# Altium footprint library LSP_PcbLib.PcbLib: 22 footprints (part 1 of 2)
Each footprint in its own frame and in the unit in brackets; x right, y up, seen from the top. Pads: shape width x height; smd on the part's side, far side on the other; paste and mask are expansions set on the pad; w line width, h text height; cw(c..) or ccw(c..) is an arc to the next point about the centre after c.
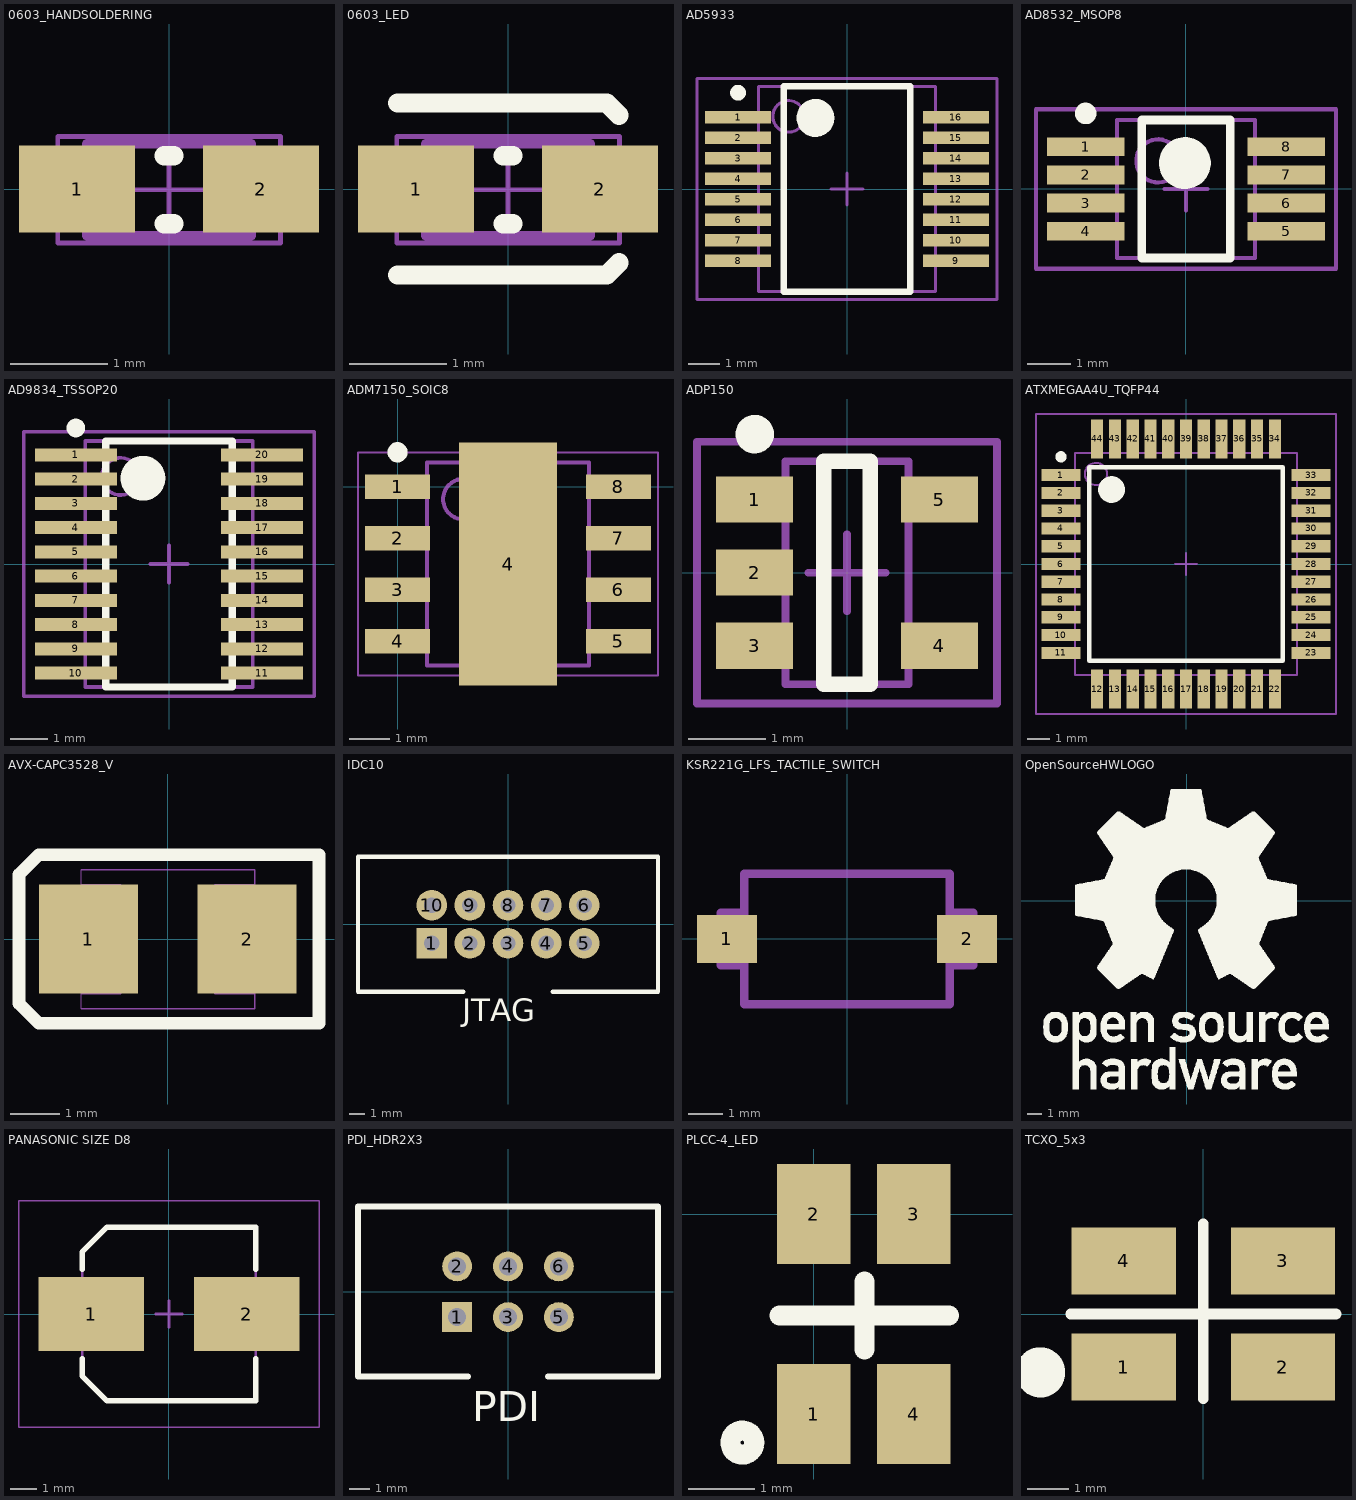
[diagram p0: the footprints below, top view; thin cyan lines are the x and y axes]

## 0603_HANDSOLDERING [mm] "Chip Resistor, 2-Leads, Body 1.6x0.8mm, IPC Medium Density"
height 0.6
pads (2):
  rect 1.2x0.9 smd: 1(-0.954,0) 2(0.946,0)
Top Overlay:
  lines w0.2: -0.053,-0.358 0.047,-0.358 ; -0.053,0.342 0.047,0.342
Mechanical 13:
  lines w0.1: -0.853,-0.483 0.847,-0.483 0.847,0.467 -0.853,0.467 -0.853,-0.483
Mechanical 15:
  lines w0.05: -0.478,-0.008 0.472,-0.008 ; -0.003,-0.483 -0.003,0.467 ; -1.153,-0.558 1.147,-0.558 1.147,0.542 -1.153,0.542 -1.153,-0.558
3D body: height 0.6, standoff 0, extent -0.852,-0.482 -0.583,0.467
3D body: height 0.6, standoff 0, extent -0.583,-0.482 0.578,0.467
3D body: height 0.6, standoff 0, extent 0.578,-0.482 0.847,0.467

## 0603_LED [mm] "SMD LED, Body 1.6x0.8mm"
height 0.6
pads (2):
  rect 1.2x0.9 smd: 1(-0.954,0) 2(0.946,0)
Top Overlay:
  lines w0.2: -1.143,-0.889 1.016,-0.889 1.143,-0.762 ; -1.143,0.889 1.016,0.889 1.143,0.762 ; -0.053,-0.358 0.047,-0.358 ; -0.053,0.342 0.047,0.342
Mechanical 13:
  lines w0.1: -0.853,-0.483 0.847,-0.483 0.847,0.467 -0.853,0.467 -0.853,-0.483
Mechanical 15:
  lines w0.05: -0.478,-0.008 0.472,-0.008 ; -0.003,-0.483 -0.003,0.467 ; -1.153,-0.558 1.147,-0.558 1.147,0.542 -1.153,0.542 -1.153,-0.558
3D body: height 0.6, standoff 0, extent -0.852,-0.482 -0.583,0.467
3D body: height 0.6, standoff 0, extent -0.583,-0.482 0.578,0.467
3D body: height 0.6, standoff 0, extent 0.578,-0.482 0.847,0.467

## AD5933 [mm] "SOP, 16-Leads, Body 6,5x5,6mm (max), Pitch 0,65mm, IPC Medium Density"
height 2
pads (16):
  rect 2.1x0.4 smd: 1(-3.45,2.275) 2(-3.45,1.625) 3(-3.45,0.975) 4(-3.45,0.325) 5(-3.45,-0.325) 6(-3.45,-0.975) 7(-3.45,-1.625) 8(-3.45,-2.275) 9(3.45,-2.275) 10(3.45,-1.625) 11(3.45,-0.975) 12(3.45,-0.325) 13(3.45,0.325) 14(3.45,0.975) 15(3.45,1.625) 16(3.45,2.275)
Top Overlay:
  circle w0.6: c-1,2.25 r0.3
  circle w0.25: c-3.45,3.05 r0.125
  lines w0.2: -2,-3.25 2,-3.25 2,3.25 -2,3.25 -2,-3.25
Mechanical 13:
  circle w0.1: c-1.85,2.3 r0.5
  lines w0.1: -2.8,-3.25 2.8,-3.25 2.8,3.25 -2.8,3.25 -2.8,-3.25
Mechanical 15:
  lines w0.1: -0.5,0 0.5,0 ; 0,-0.5 0,0.5 ; -4.75,-3.5 4.75,-3.5 4.75,3.5 -4.75,3.5 -4.75,-3.5
3D body: height 2, standoff 0.05, extent -2.8,-3.25 2.8,3.25

## AD8532_MSOP8 [mm] "TSOP, 8-Leads, Body 3,2x3,2mm (max), Pitch 0,65mm, IPC Medium Density"
height 1.1
pads (8):
  rect 1.8x0.43 smd: 1(-2.325,0.975) 2(-2.325,0.325) 3(-2.325,-0.325) 4(-2.325,-0.975) 5(2.325,-0.975) 6(2.325,-0.325) 7(2.325,0.325) 8(2.325,0.975)
Top Overlay:
  circle w0.6: c-0.025,0.6 r0.3
  circle w0.25: c-2.325,1.75 r0.125
  lines w0.2: -1.025,-1.6 1.025,-1.6 1.025,1.6 -1.025,1.6 -1.025,-1.6
Mechanical 13:
  circle w0.1: c-0.65,0.65 r0.5
  lines w0.1: -1.6,-1.6 1.6,-1.6 1.6,1.6 -1.6,1.6 -1.6,-1.6
Mechanical 15:
  lines w0.1: -0.5,0 0.5,0 ; 0,-0.5 0,0.5 ; -3.475,-1.85 3.475,-1.85 3.475,1.85 -3.475,1.85 -3.475,-1.85
3D body: height 1.1, standoff 0.1, extent -1.6,-1.6 1.6,1.6

## AD9834_TSSOP20 [mm] "TSOP, 20-Leads, Body 6,6x4,5mm (max), Pitch 0,65mm, IPC Medium Density"
height 1.2
pads (20):
  rect 2.2x0.35 smd: 1(-2.5,2.925) 2(-2.5,2.275) 3(-2.5,1.625) 4(-2.5,0.975) 5(-2.5,0.325) 6(-2.5,-0.325) 7(-2.5,-0.975) 8(-2.5,-1.625) 9(-2.5,-2.275) 10(-2.5,-2.925) 11(2.5,-2.925) 12(2.5,-2.275) 13(2.5,-1.625) 14(2.5,-0.975) 15(2.5,-0.325) 16(2.5,0.325) 17(2.5,0.975) 18(2.5,1.625) 19(2.5,2.275) 20(2.5,2.925)
Top Overlay:
  circle w0.25: c-2.5,3.65 r0.125
  circle w0.6: c-0.7,2.3 r0.3
  lines w0.2: -1.7,-3.3 -1.7,3.3 1.7,3.3 1.7,-3.3 -1.7,-3.3
Mechanical 13:
  circle w0.1: c-1.3,2.35 r0.5
  lines w0.1: -2.25,-3.3 -2.25,3.3 2.25,3.3 2.25,-3.3 -2.25,-3.3
Mechanical 15:
  lines w0.1: -0.5,0 0.5,0 ; 0,-0.5 0,0.5 ; -3.9,-3.55 -3.9,3.55 3.9,3.55 3.9,-3.55 -3.9,-3.55
3D body: height 1.2, standoff 0.1, extent -2.25,-3.3 2.25,3.3

## ADM7150_SOIC8 [mm] "SOIC, 8-Leads, Body 4,90x3,90mm, Pitch 1,27mm, Thermal Pad 6,00x2,41mm, IPC Medium Density"
height 1.65
pads (9):
  rect 1.6x0.6 smd: 1(0,0) 2(0,-1.27) 3(0,-2.54) 4(0,-3.81) 5(5.45,-3.81) 6(5.45,-2.54) 7(5.45,-1.27) 8(5.45,0)
  rect 2.41x6 smd: 4(2.725,-1.905)
Top Overlay:
  circle w0.25: c0,0.85 r0.125
Mechanical 13:
  circle w0.1: c1.625,-0.305 r0.5
  lines w0.1: 0.725,-4.405 4.725,-4.405 4.725,0.595 0.725,0.595 0.725,-4.405
Mechanical 15:
  lines w0.05: -0.975,-4.655 6.425,-4.655 6.425,0.845 -0.975,0.845 -0.975,-4.655
  lines w0.1: 2.225,-1.905 3.225,-1.905 ; 2.725,-2.405 2.725,-1.405
3D body: height 1.65, standoff 0.1, extent 0.725,-4.405 4.725,0.595

## ADP150 [mm] "SOT23, 5-Leads, Body 2,9x2,8mm (max), Pitch 0,95mm, IPC Medium Density"
height 1
pads (5):
  rect 1x0.6 smd: 1(-1.2,0.95) 2(-1.2,0) 3(-1.2,-0.95) 4(1.2,-0.95) 5(1.2,0.95)
Top Overlay:
  circle w0.25: c-1.2,1.8 r0.125
  lines w0.2: -0.3,-1.45 0.3,-1.45 0.3,1.45 -0.3,1.45 -0.3,-1.45
Mechanical 13:
  lines w0.1: -0.8,-1.45 -0.8,1.45 0.8,1.45 0.8,-1.45 -0.8,-1.45
Mechanical 15:
  lines w0.1: -0.5,0 0.5,0 ; 0,-0.5 0,0.5 ; -1.95,-1.7 -1.95,1.7 1.95,1.7 1.95,-1.7 -1.95,-1.7
3D body: height 1, standoff 0.1, extent -0.8,-1.45 0.8,1.45

## ATXMEGAA4U_TQFP44 [mm] "TQFP, 44-Leads, Body 12,3x12,3mm (max), Pitch 0,80mm, IPC Medium Density"
height 1.2
pads (44):
  rect 1.75x0.55 smd: 1(-5.625,4) 2(-5.625,3.2) 3(-5.625,2.4) 4(-5.625,1.6) 5(-5.625,0.8) 6(-5.625,0) 7(-5.625,-0.8) 8(-5.625,-1.6) 9(-5.625,-2.4) 10(-5.625,-3.2) 11(-5.625,-4) 23(5.625,-4) 24(5.625,-3.2) 25(5.625,-2.4) 26(5.625,-1.6) 27(5.625,-0.8) 28(5.625,0) 29(5.625,0.8) 30(5.625,1.6) 31(5.625,2.4) 32(5.625,3.2) 33(5.625,4)
  rect 0.55x1.75 smd: 12(-4,-5.625) 13(-3.2,-5.625) 14(-2.4,-5.625) 15(-1.6,-5.625) 16(-0.8,-5.625) 17(0,-5.625) 18(0.8,-5.625) 19(1.6,-5.625) 20(2.4,-5.625) 21(3.2,-5.625) 22(4,-5.625) 34(4,5.625) 35(3.2,5.625) 36(2.4,5.625) 37(1.6,5.625) 38(0.8,5.625) 39(0,5.625) 40(-0.8,5.625) 41(-1.6,5.625) 42(-2.4,5.625) 43(-3.2,5.625) 44(-4,5.625)
Top Overlay:
  circle w0.25: c-5.625,4.825 r0.125
  circle w0.6: c-3.35,3.35 r0.3
  lines w0.2: -4.35,-4.35 -4.35,4.35 4.35,4.35 4.35,-4.35 -4.35,-4.35
Mechanical 13:
  circle w0.1: c-4.05,4.05 r0.5
  lines w0.1: -5,-5 -5,5 5,5 5,-5 -5,-5
Mechanical 15:
  lines w0.1: -0.5,0 0.5,0 ; 0,-0.5 0,0.5 ; -6.75,-6.75 -6.75,6.75 6.75,6.75 6.75,-6.75 -6.75,-6.75
3D body: height 1.2, standoff 0.05, extent -5,-5 5,5

## AVX-CAPC3528_V [mm] "SMT Capacitor, 2 Leads, Body 3.5x2.8mm"
pads (2):
  rect 2x2.2 smd: 1(-1.6,0) 2(1.6,0)
Top Overlay:
  lines w0.254: -3,-1.3 -2.6,-1.7 3.05,-1.7 3.05,1.7 -2.6,1.7 -3,1.3 -3,-1.3
Mechanical 7:
  lines w0.025: -1.748,-1.404 1.752,-1.404 1.752,1.396 -1.748,1.396 ; -1.748,-1.104 -0.948,-1.104 -0.948,1.096 -1.748,1.096 ; -1.748,-1.404 -1.748,1.396 ; 1.752,-1.104 0.952,-1.104 0.952,1.096 1.752,1.096
3D body: height 0.3, standoff 0, extent -1.793,-0.665 -1.568,0.824
3D body: height 0.3, standoff 0, extent 1.578,-0.658 1.803,0.768
3D body: height 1.9, standoff 0, extent -1.704,-1.539 1.763,1.537

## IDC10 [mm] "IDC 10 pin connector"
height 15
pads (10):
  rect 2.04x2.04 hole 1.02: 1(-5.08,-1.27)
  round 2.04 hole 1.02: 2(-2.54,-1.27) 3(0,-1.27) 4(2.54,-1.27) 5(5.08,-1.27) 6(5.08,1.27) 7(2.54,1.27) 8(0,1.27) 9(-2.54,1.27) 10(-5.08,1.27)
Top Overlay:
  lines w0.3: -3,-4.5 -5,-4.5 -10,-4.5 -10,4.5 10,4.5 10,-4.5 5,-4.5 3,-4.5
  text "JTAG" at -3.048,-6.477 h1.5
Bottom Overlay:
  text "GND" at -4.318,-2.667 h1.5
  text "+5V" at -1.778,-2.667 h1.5
  text "NC" at 0.762,-2.667 h1.5
  text "TCK" at 3.429,-2.667 h1.5
  text "TMS" at 5.969,-2.667 h1.5
  text "+3V3" at -4.318,8.128 h1.5
  text "NC" at -1.778,5.08 h1.5
  text "NC" at 0.762,5.08 h1.5
  text "TDI" at 3.302,5.969 h1.5
  text "TDO" at 5.715,6.604 h1.5
3D body: height 9.3, standoff -3.1, extent -10.15,-4.4 10.15,4.7

## KSR221G_LFS_TACTILE_SWITCH [mm] "C & K COMPONENTS  KSR221G LFS  SWITCH, SPST, 0.05A, 32VDC, SMD"
height 2.5
pads (2):
  rect 1.75x1.4 smd: 1(-3.5,0) 2(3.5,0)
Mechanical 3:
  lines w0.254: -3,-1.905 3,-1.9 3,1.9 -3,1.9 -3,-1.9 ; -3,-0.762 -3.683,-0.762 -3.683,0.762 -3,0.762 ; 3,-0.762 3.683,-0.762 3.683,0.762 3,0.762
3D body: height 2.5, standoff 0, extent -1,-1 1,1
3D body: height 1.75, standoff 0, extent -3.175,-2.032 3.175,2.032

## OpenSourceHWLOGO [mm] "OpenSourceHWLOGO"
Top Overlay:
  drawing of 3317 lines, arcs and shapes, not listed

## PANASONIC SIZE D8 [mm] "Aluminum Electrolytic Capacitor, Body 6,60x6,60x7,70mm, IPC Low Density"
height 7.7
pads (2):
  rect 4x2.8 smd: 1(-2.95,0) 2(2.95,0)
Top Overlay:
  lines w0.2: -3.3,-1.7 -3.3,-2.35 -2.35,-3.3 3.3,-3.3 3.3,-1.7 ; -3.3,1.7 -3.3,2.35 -2.35,3.3 3.3,3.3 3.3,1.7
Mechanical 13:
  lines w0.1: -3.3,-2.35 -3.3,2.35 -2.35,3.3 3.3,3.3 3.3,-3.3 -2.35,-3.3 -3.3,-2.35
Mechanical 15:
  lines w0.05: -5.7,-4.3 5.7,-4.3 5.7,4.3 -5.7,4.3 -5.7,-4.3
  lines w0.1: -0.5,0 0.5,0 ; 0,-0.5 0,0.5
3D body: height 7.7, standoff 0, extent -3.15,-3.15 3.15,3.148
3D body: height 2.57, standoff 0, extent -3.3,-3.3 3.3,3.3

## PDI_HDR2X3 [mm] "PDI Connector; Header; 3x2 Position"
height 9.1
pads (6):
  rect 1.5x1.5 hole 0.9: 1(-2.54,-1.27)
  round 1.5 hole 0.9: 2(-2.54,1.27) 3(0,-1.27) 4(0,1.27) 5(2.54,-1.27) 6(2.54,1.27)
Top Overlay:
  lines w0.3: -2,-4.25 -7.5,-4.25 -7.5,4.25 7.5,4.25 7.5,-4.25 2,-4.25
  text "PDI" at -1.778,-6.477 h1.5
Bottom Overlay:
  text "CLK" at 3.302,-2.413 h1.5
  text "NC" at 0.762,-2.413 h1.5
  text "DAT" at -1.778,-2.413 h1.5
  text "GND" at 3.302,6.35 h1.5
  text "NC" at 0.762,4.699 h1.5
  text "VCC" at -1.778,6.223 h1.5
3D body: height 9.1, standoff -3.1, extent -7.62,-4.475 7.62,4.975

## PLCC-4_LED [mm] "Standard PLCC-4 LED package"
height 1.9
pads (4):
  rect 1.1x1.5 smd: 1(0,-3) 2(0,0) 3(1.5,0) 4(1.5,-3)
Top Overlay:
  circle w0.3: c-1.069,-3.429 r0.18
  lines w0.3: -0.508,-1.524 2.032,-1.524 ; 0.762,-2.032 0.762,-1.016
3D body: height 1.9, standoff 0.1, extent -0.635,-3.111 2.159,0.064

## TCXO_5x3 [mm] "TCXO 5mm x 3.2mm"
height 1.5
pads (4):
  rect 2.5x1.6 smd: 1(-1.905,-1.27) 2(1.905,-1.27) 3(1.905,1.27) 4(-1.905,1.27)
Top Overlay:
  circle w1: c-3.91,-1.397 r0.1
  lines w0.254: -3.175,0 3.175,0 ; 0,-2.032 0,2.159
3D body: height 1.5, standoff 0.1, extent -2.54,-1.587 2.54,1.588